# Altium schematic symbol library res.SchLib: 1 symbol
Pins are listed as number, name and electrical type; pins without a type are passive.

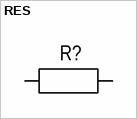
[diagram p0: symbol RES]

## RES
designator R?  (value not drawn)
УГО резистора
pins: 1, 2
1 alternate drawing of the same symbol